# EAGLE library part LSM6DS33 (library added_parts)
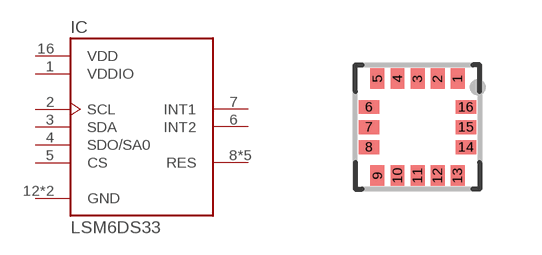
[diagram p31: symbol with the pads of LGA_3X3_16L; footprint LGA_3X3_16L]

Designator prefix IC

## LSM6DS33  [LGA_3X3_16L]
1  VDDIO  pwr
2  SCL  in
3  SDA
4  SDO/SA0
5  CS  in
6  INT2  out
7  INT1  out
8  RES  pas
9  RES  pas
10  RES  pas
11  RES  pas
12  GND  pwr
13  GND  pwr
15  RES  pas
16  VDD  pwr

## Footprint LGA_3X3_16L (pad centres in mm)
smd 0.35 x 0.51: 1 1,1.21; 2 0.5,1.21; 3 0,1.21; 4 -0.5,1.21; 5 -1,1.21; 9 -1,-1.21; 10 -0.5,-1.21; 11 0,-1.21; 12 0.5,-1.21; 13 1,-1.21
smd 0.51 x 0.35: 6 -1.21,0.5; 7 -1.21,0; 8 -1.21,-0.5; 14 1.21,-0.5; 15 1.21,0; 16 1.21,0.5